# Altium integrated library Resistors.IntLib: 15 symbols
Pins are listed as number, name and electrical type; pins without a type are passive.

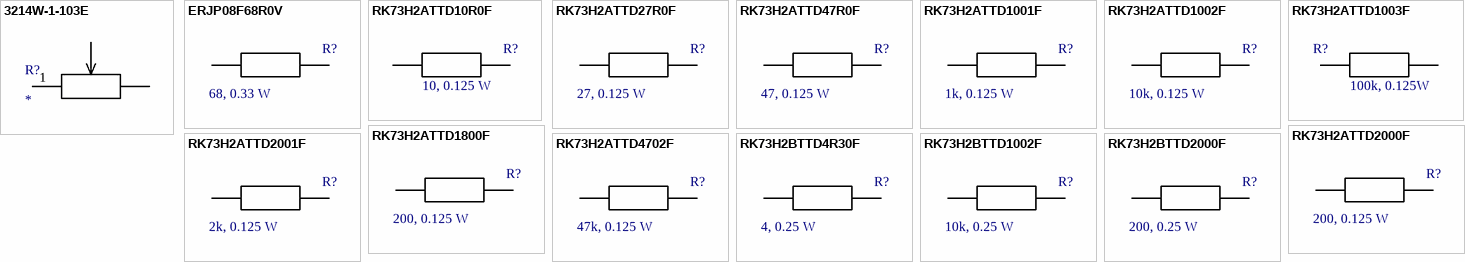
[diagram p0: symbols 3214W-1-103E to RK73H2BTTD2000F]

## 3214W-1-103E
designator R?
10k,0.25W; datasheet: http://datasheet.octopart.com/3362H-1-102LF-Bourns-datasheet-7280881.pdf; cost: 3,44; where buy: http://www.kosmodrom.com.ua/prodlist.php?name=%D0%E5%E7%E8%F1%F2%EE%F0%20%EF%E5%F0%E5%EC%E5%ED%ED%FB%E9&page=0; value: 10k, 0.25W
footprint 3214W
pins: 1, 2, 3

## ERJP08F68R0V
designator R?  value 68, 0.33 W  (hidden comment: ERJP08F68R0V)
68, 0.33 W; code: 6098725; cost: 0,17; where buy: https://www.elfa.se/elfa3~ee_ru/elfa/init.do?item=60-987-25&toc=19543&q=ERJP08F68R0V; datasheet: https://www1.elfa.se/data1/wwwroot/assets/datasheets/ERJP_eng_tds.pdf
footprint R_1206
pins: 1, 2

## RK73H2ATTD10R0F
designator R?  value 10, 0.125 W  (hidden comment: RK73H2ATTD10R0F)
10, 0.125 W; code: 6017016; cost: 0,097; where buy: https://www.elfa.se/elfa3~ee_ru/elfa/init.do?item=60-177-35&toc=19543&q=60-177-35++; datasheet: https://www1.elfa.se/data1/wwwroot/assets/datasheets/06016752.pdf
footprint R_0805
pins: 1, 2

## RK73H2ATTD27R0F
designator R?  value 27, 0.125 W  (hidden comment: RK73H2ATTD27R0F)
27, 0.125 W; code: 6017115; cost: 0,097; where buy: https://www.elfa.se/elfa3~ee_ru/elfa/init.do?item=60-171-15&toc=19543&q=RK73H2ATTD27R0F; datasheet: https://www1.elfa.se/data1/wwwroot/assets/datasheets/06016752.pdf
footprint R_0805
pins: 1, 2

## RK73H2ATTD47R0F
designator R?  value 47, 0.125 W  (hidden comment: RK73H2ATTD47R0F)
47, 0.125 W; code: 6017172; cost: 0,097; where buy: https://www.elfa.se/elfa3~ee_ru/elfa/init.do?item=60-171-72&toc=0; datasheet: https://www1.elfa.se/data1/wwwroot/assets/datasheets/06016752.pdf
footprint R_0805
pins: 1, 2

## RK73H2ATTD1001F
designator R?  value 1k, 0.125 W  (hidden comment: RK73H2ATTD1001F)
1k, 0.125 W; code: 6017495; cost: 0,097; where buy: https://www.elfa.se/elfa3~ee_ru/elfa/init.do?item=60-173-21&toc=0; datasheet: https://www1.elfa.se/data1/wwwroot/assets/datasheets/06016752.pdf
footprint R_0805
pins: 1, 2

## RK73H2ATTD1002F
designator R?  value 10k, 0.125 W  (hidden comment: RK73H2ATTD1002F)
10k, 0.125 W; code: 6017735; cost: 0,097; where buy: https://www.elfa.se/elfa3~ee_ru/elfa/init.do?item=60-177-35&toc=19543&q=60-177-35++; datasheet: https://www1.elfa.se/data1/wwwroot/assets/datasheets/06016752.pdf
footprint R_0805
pins: 1, 2

## RK73H2ATTD1003F
designator R?  value 100k, 0.125W  (hidden comment: *)
100k,0.125; code: 6017974; datasheet: https://www1.elfa.se/data1/wwwroot/assets/datasheets/rk73h-series_eng_jap_tds.pdf; where buy: https://www.elfa.se/elfa3~ee_ru/elfa/init.do?item=60-179-74&toc=0; cost: 0,0971
pins: 1, 2

## RK73H2ATTD1800F
designator R?  value 200, 0.125 W  (hidden comment: RK73H2ATTD1800F)
180, 0.125 W; code: 6017313; cost: 0,097; where buy: https://www.elfa.se/elfa3~ee_ru/elfa/init.do?item=60-173-13&toc=0; datasheet: https://www1.elfa.se/data1/wwwroot/assets/datasheets/06016752.pdf
footprint R_0805
pins: 1, 2

## RK73H2ATTD2000F
designator R?  value 200, 0.125 W  (hidden comment: RK73H2ATTD2000F)
200, 0.125 W; code: 6017321; cost: 0,097; where buy: https://www.elfa.se/elfa3~ee_ru/elfa/init.do?item=60-173-21&toc=0; datasheet: https://www1.elfa.se/data1/wwwroot/assets/datasheets/06016752.pdf
footprint R_0805
pins: 1, 2

## RK73H2ATTD2001F
designator R?  value 2k, 0.125 W  (hidden comment: RK73H2ATTD2001F)
2k, 0.125 W; code: 6017560; cost: 0,097; where buy: https://www.elfa.se/elfa3~ee_ru/elfa/init.do?item=60-175-60&toc=0; datasheet: https://www1.elfa.se/data1/wwwroot/assets/datasheets/06016752.pdf
footprint R_0805
pins: 1, 2

## RK73H2ATTD4702F
designator R?  value 47k, 0.125 W  (hidden comment: RK73H2ATTD4702F)
47k, 0.125 W; code: 6017891; cost: 0,097; where buy: https://www.elfa.se/elfa3~ee_ru/elfa/init.do?item=60-178-91&toc=19543&q=+RK73H2ATTD47; datasheet: https://www1.elfa.se/data1/wwwroot/assets/datasheets/06016752.pdf
footprint R_0805
pins: 1, 2

## RK73H2BTTD4R30F
designator R?  value 4, 0.25 W  (hidden comment: RK73H2BTTD4R30F)
4, 0.25 W; code: 6018915; cost: 0,111; where buy: https://www.elfa.se/elfa3~ee_ru/elfa/init.do?item=60-189-15&toc=0&q=RK73H2BTTD4; datasheet: https://www1.elfa.se/data1/wwwroot/assets/datasheets/rk73h-series_eng_jap_tds.pdf
footprint R_1206
pins: 1, 2

## RK73H2BTTD1002F
designator R?  value 10k, 0.25 W  (hidden comment: RK73H2BTTD1002F)
10k, 0.25 W; code: 6019731; cost: 0,111; where buy: https://www.elfa.se/elfa3~ee_ru/elfa/init.do?item=60-197-31&toc=19543&q=60-197-31; datasheet: https://www1.elfa.se/data1/wwwroot/assets/datasheets/06016752.pdf
footprint R_1206
pins: 1, 2

## RK73H2BTTD2000F
designator R?  value 200, 0.25 W  (hidden comment: RK73H2BTTD2000F)
200, 0.25 W; code: 6019327; cost: 0,111; where buy: https://www.elfa.se/elfa3~ee_ru/elfa/init.do?item=60-193-27&toc=19543&q=RK73H2BTTD2000F; datasheet: https://www1.elfa.se/data1/wwwroot/assets/datasheets/06016752.pdf
footprint R_1206
pins: 1, 2